# EAGLE library part S18P (library con-amp-mt)
AMP MT CONNECTOR
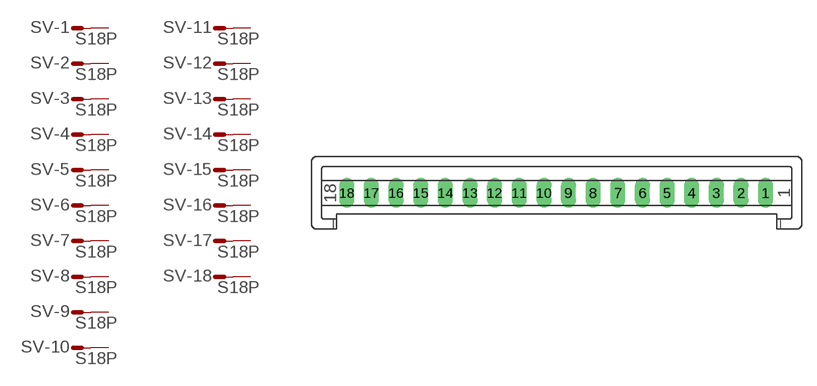
[diagram p27: symbol with the pads of S18P; footprint S18P]

Designator prefix SV; gates -1=M -2=M -3=M -4=M -5=M -6=M -7=M -8=M -9=M -10=M -11=M -12=M -13=M -14=M -15=M -16=M -17=M -18=M

## S18P  [S18P]
1  -1:S  pas
2  -2:S  pas
3  -3:S  pas
4  -4:S  pas
5  -5:S  pas
6  -6:S  pas
7  -7:S  pas
8  -8:S  pas
9  -9:S  pas
10  -10:S  pas
11  -11:S  pas
12  -12:S  pas
13  -13:S  pas
14  -14:S  pas
15  -15:S  pas
16  -16:S  pas
17  -17:S  pas
18  -18:S  pas

## Footprint S18P (pad centres in mm)
AMP MT CONNECTOR
drill 1.016 long: 1 21.25,0; 2 18.75,0; 3 16.25,0; 4 13.75,0; 5 11.25,0; 6 8.75,0; 7 6.25,0; 8 3.75,0; 9 1.25,0; 10 -1.25,0; 11 -3.75,0; 12 -6.25,0; 13 -8.75,0; 14 -11.25,0; 15 -13.75,0; 16 -16.24,0; 17 -18.755,0; 18 -21.244,0